# EAGLE library part DAC:AD5346-8(12BIT-PAR-OCTAL) (library QuantumOptics)
AD5346-8, Analog Devices, octal DAC, 10- to 12-bit, parallel, single supply. http://www.analog.com/UploadedFiles/Data_Sheets/4283875071479AD5346_7_8_0.pdf.
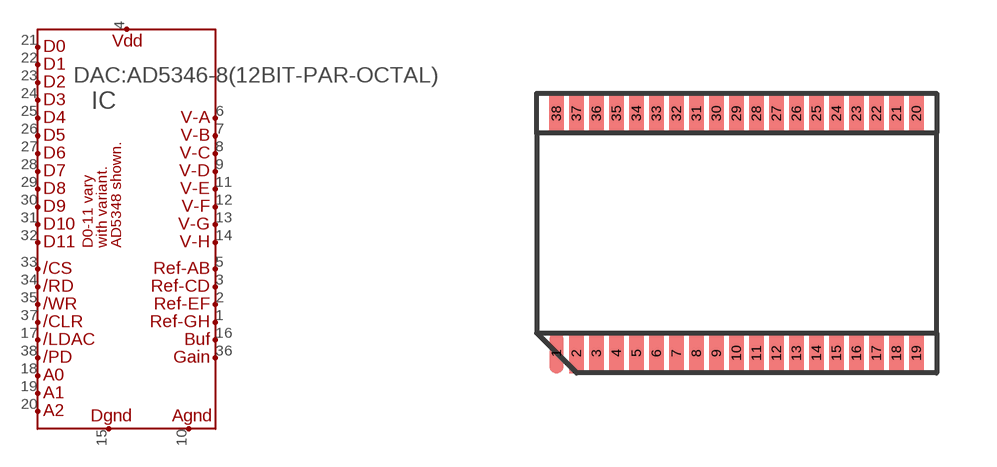
[diagram p66: symbol with the pads of TSSOP-38; footprint TSSOP-38]

Designator prefix IC

## DAC:AD5346-8(12BIT-PAR-OCTAL)BRU(TSSOP-38)  [TSSOP-38]
1  REF-GH
2  REF-EF
3  REF-CD
4  VDD
5  REF-AB
6  V-A  out
7  V-B  out
8  V-C  out
9  V-D  out
10  AGND
11  V-E  out
12  V-F  out
13  V-G  out
14  V-H  out
15  DGND
16  BUF
17  /LDAC  in
18  A0  out
19  A1  out
20  A2  out
21  DB0  in
22  DB1  in
23  DB2  in
24  DB3  in
25  DB4  in
26  DB5  in
27  DB6  in
28  DB7  in
29  DB8  in
30  DB9  in
31  DB10  in
32  DB11  in
33  /CS  in
34  /RD  in
35  /WR  in
36  GAIN
37  /CLR  in
38  /PD  in

## Footprint TSSOP-38 (pad centres in mm)
TSSOP-38, pins 0.65mm c-c spacing, nominal 6.4mm rows. e.g : http://www.analog.com/UploadedFiles/Data_Sheets/4283875071479AD5346_7_8_0.pdf.
smd 0.356 x 1.016: 1 -4.5,-3.5; 2 -4,-3.5; 3 -3.5,-3.5; 4 -3,-3.5; 5 -2.5,-3.5; 6 -2,-3.5; 7 -1.5,-3.5; 8 -1,-3.5; 9 -0.5,-3.5; 10 0,-3.5; 11 0.5,-3.5; 12 1,-3.5; 13 1.5,-3.5; 14 2,-3.5; 15 2.5,-3.5; 16 3,-3.5; 17 3.5,-3.5; 18 4,-3.5; 19 4.5,-3.5; 20 4.5,2.5; 21 4,2.5; 22 3.5,2.5; 23 3,2.5; 24 2.5,2.5; 25 2,2.5; 26 1.5,2.5; 27 1,2.5; 28 0.5,2.5; 29 0,2.5; 30 -0.5,2.5; 31 -1,2.5; 32 -1.5,2.5; 33 -2,2.5; 34 -2.5,2.5; 35 -3,2.5; 36 -3.5,2.5; 37 -4,2.5; 38 -4.5,2.5